# EAGLE library part MSP430F5528IRGCT (library MSP430F5528IRGCT)
MIXED SIGNAL MICROCONTROLLER
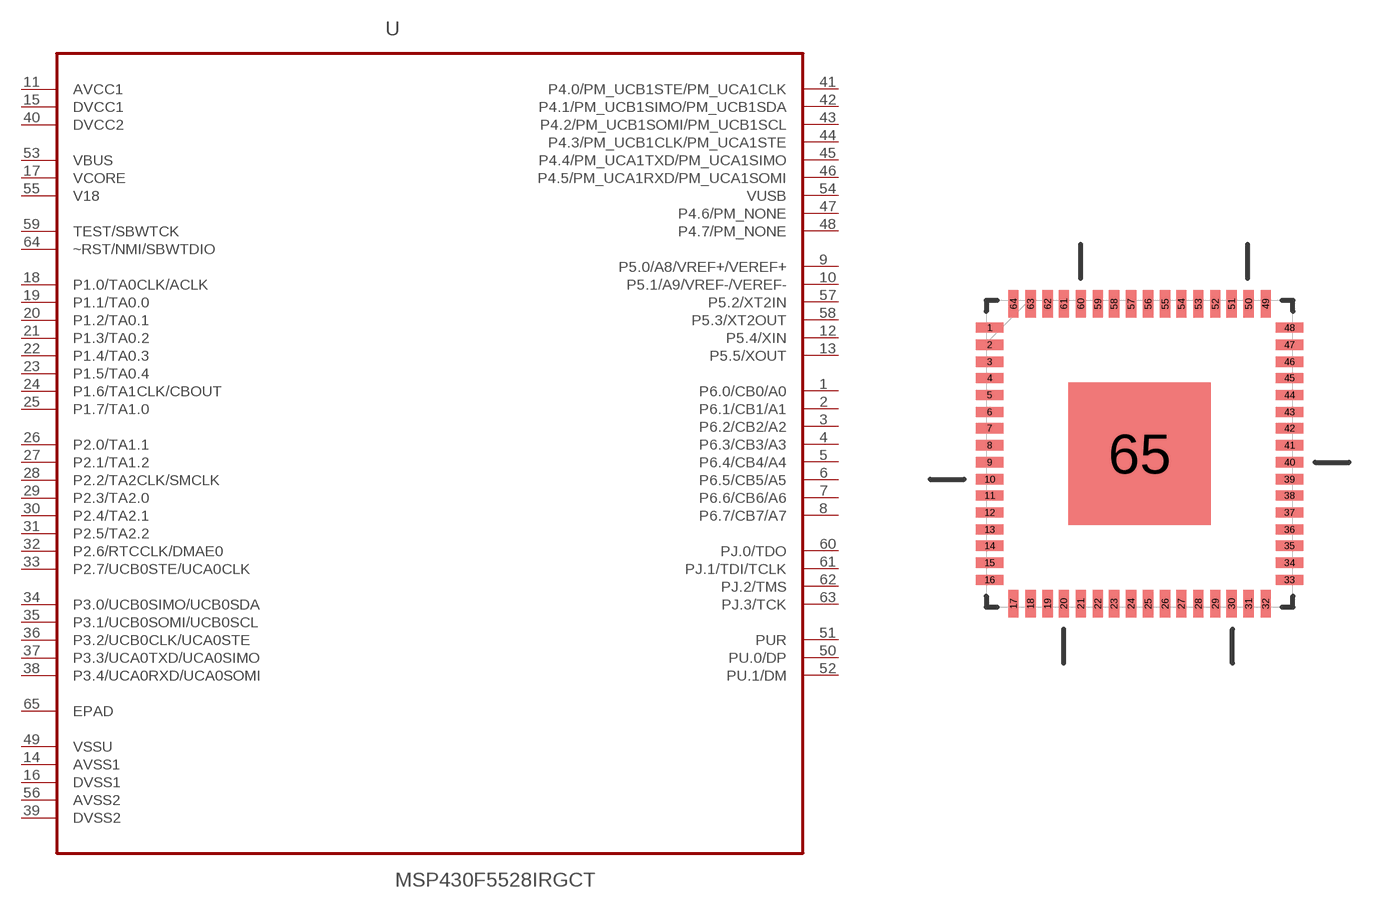
[diagram p0: symbol with the pads of QFN50P900X900X100-65N; footprint QFN50P900X900X100-65N]

Designator prefix U

## MSP430F5528IRGCT (MPN: MSP430F5528IRGCT; OC_FARNELL: 1866820; OC_NEWARK: 94T6965; PACKAGE: VQFN-64; SUPPLIER: TEXAS INSTRUMENTS)  [QFN50P900X900X100-65N]
1  P6.0/CB0/A0
2  P6.1/CB1/A1
3  P6.2/CB2/A2
4  P6.3/CB3/A3
5  P6.4/CB4/A4
6  P6.5/CB5/A5
7  P6.6/CB6/A6
8  P6.7/CB7/A7
9  P5.0/A8/VREF+/VEREF+
10  P5.1/A9/VREF-/VEREF-
11  AVCC1  pwr
12  P5.4/XIN
13  P5.5/XOUT  pwr
14  AVSS1  pwr
15  DVCC1  pwr
16  DVSS1  pwr
17  VCORE  pwr
18  P1.0/TA0CLK/ACLK
19  P1.1/TA0.0
20  P1.2/TA0.1
21  P1.3/TA0.2
22  P1.4/TA0.3
23  P1.5/TA0.4
24  P1.6/TA1CLK/CBOUT
25  P1.7/TA1.0
26  P2.0/TA1.1
27  P2.1/TA1.2
28  P2.2/TA2CLK/SMCLK
29  P2.3/TA2.0
30  P2.4/TA2.1
31  P2.5/TA2.2
32  P2.6/RTCCLK/DMAE0
33  P2.7/UCB0STE/UCA0CLK
34  P3.0/UCB0SIMO/UCB0SDA
35  P3.1/UCB0SOMI/UCB0SCL
36  P3.2/UCB0CLK/UCA0STE
37  P3.3/UCA0TXD/UCA0SIMO
38  P3.4/UCA0RXD/UCA0SOMI
39  DVSS2  pwr
40  DVCC2  pwr
41  P4.0/PM_UCB1STE/PM_UCA1CLK
42  P4.1/PM_UCB1SIMO/PM_UCB1SDA
43  P4.2/PM_UCB1SOMI/PM_UCB1SCL
44  P4.3/PM_UCB1CLK/PM_UCA1STE
45  P4.4/PM_UCA1TXD/PM_UCA1SIMO
46  P4.5/PM_UCA1RXD/PM_UCA1SOMI
47  P4.6/PM_NONE
48  P4.7/PM_NONE
49  VSSU  pwr
50  PU.0/DP
51  PUR
52  PU.1/DM
53  VBUS  pwr
54  VUSB  out
55  V18  pwr
56  AVSS2  pwr
57  P5.2/XT2IN
58  P5.3/XT2OUT
59  TEST/SBWTCK  in
60  PJ.0/TDO
61  PJ.1/TDI/TCLK
62  PJ.2/TMS
63  PJ.3/TCK
64  ~RST/NMI/SBWTDIO
65  EPAD  pas

## Footprint QFN50P900X900X100-65N (pad centres in mm)
smd 0.813 x 0.305: 1 -4.47,3.759; 2 -4.47,3.251; 3 -4.47,2.743; 4 -4.47,2.261; 5 -4.47,1.753; 6 -4.47,1.245; 7 -4.47,0.762; 8 -4.47,0.254; 9 -4.47,-0.254; 10 -4.47,-0.762; 11 -4.47,-1.245; 12 -4.47,-1.753; 13 -4.47,-2.261; 14 -4.47,-2.743; 15 -4.47,-3.251; 16 -4.47,-3.759; 33 4.47,-3.759; 34 4.47,-3.251; 35 4.47,-2.743; 36 4.47,-2.261; 37 4.47,-1.753; 38 4.47,-1.245; 39 4.47,-0.762; 40 4.47,-0.254; 41 4.47,0.254; 42 4.47,0.762; 43 4.47,1.245; 44 4.47,1.753; 45 4.47,2.261; 46 4.47,2.743; 47 4.47,3.251; 48 4.47,3.759
smd 0.305 x 0.813: 17 -3.759,-4.47; 18 -3.251,-4.47; 19 -2.743,-4.47; 20 -2.261,-4.47; 21 -1.753,-4.47; 22 -1.245,-4.47; 23 -0.762,-4.47; 24 -0.254,-4.47; 25 0.254,-4.47; 26 0.762,-4.47; 27 1.245,-4.47; 28 1.753,-4.47; 29 2.261,-4.47; 30 2.743,-4.47; 31 3.251,-4.47; 32 3.759,-4.47; 49 3.759,4.47; 50 3.251,4.47; 51 2.743,4.47; 52 2.261,4.47; 53 1.753,4.47; 54 1.245,4.47; 55 0.762,4.47; 56 0.254,4.47; 57 -0.254,4.47; 58 -0.762,4.47; 59 -1.245,4.47; 60 -1.753,4.47; 61 -2.261,4.47; 62 -2.743,4.47; 63 -3.251,4.47; 64 -3.759,4.47
smd 4.242 x 4.242: 65 0,0